# EAGLE library part HEADER-1X10 (library magzor)
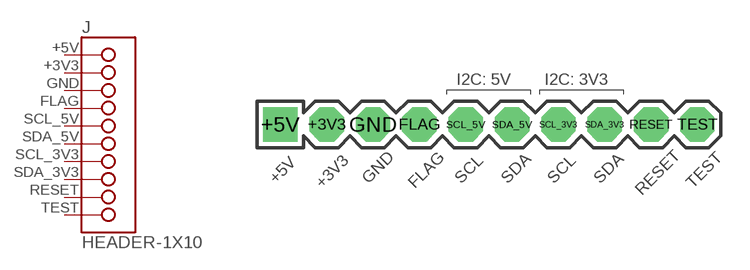
[diagram p19: symbol with the pads of HEADER-1X10-I2C-HUB; footprint HEADER-1X10-I2C-HUB]

Designator prefix J

## HEADER-1X10-I2C-HUB  [HEADER-1X10-I2C-HUB]
+3V3  2
+5V  1
FLAG  4
GND  3
RESET  9
SCL_3V3  7
SCL_5V  5
SDA_3V3  8
SDA_5V  6
TEST  10

## Footprint HEADER-1X10-I2C-HUB (pad centres in mm)
drill 1.016 pad 1.88 octagon: +3V3 -8.89,0; FLAG -3.81,0; GND -6.35,0; RESET 8.89,0; SCL_3V3 3.81,0; SCL_5V -1.27,0; SDA_3V3 6.35,0; SDA_5V 1.27,0; TEST 11.43,0
drill 1.016 pad 1.88 square: +5V -11.43,0